# Altium footprint library Wurth_Electronics_744775222_0.PcbLib: 1 footprints
Each footprint in its own frame and in the unit in brackets; x right, y up, seen from the top. Pads: shape width x height; smd on the part's side, far side on the other; paste and mask are expansions set on the pad; w line width, h text height; cw(c..) or ccw(c..) is an arc to the next point about the centre after c.
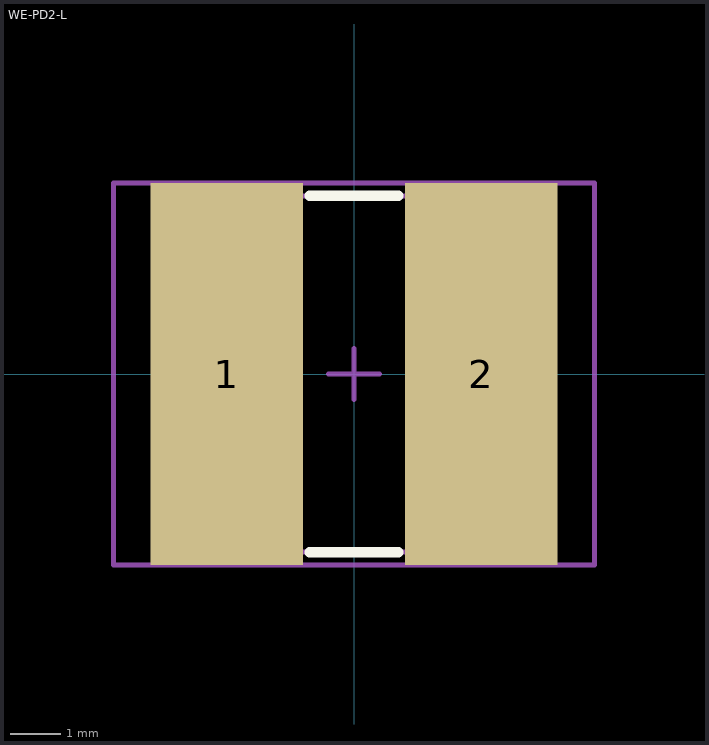
[diagram p0: the footprint, top view; thin cyan lines are the x and y axes]

## WE-PD2-L [mm] "SMD Inductor, 2-Leads, Body 7.8 x 7.0 mm"
height 5.5
pads (2):
  rect 3x7.5 smd: 1(-2.5,0) 2(2.5,0)
Top Overlay:
  lines w0.2: -0.875,-3.5 0.875,-3.5 ; -0.875,3.5 0.875,3.5
Mechanical 13:
  lines w0.1: -3.9,-3.5 3.9,-3.5 3.9,3.5 -3.9,3.5 -3.9,-3.5
Mechanical 15:
  lines w0.1: -0.5,0 0.5,0 ; 0,-0.5 0,0.5 ; -4.725,-3.75 4.725,-3.75 4.725,3.75 -4.725,3.75 -4.725,-3.75
3D body "74477510.stp": height 4.89, standoff -0.01, extent -3.813,-3.5 3.813,3.5